# Altium schematic symbol library WJ500V-5.08-2P.SchLib: 1 symbol
Pins are listed as number, name and electrical type; pins without a type are passive.

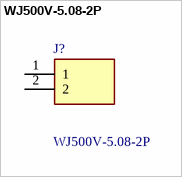
[diagram p0: symbol WJ500V-5.08-2P]

## WJ500V-5.08-2P
designator J?
P=5.08mm Screw terminal; Manufacturer_Name: Ningbo Kangnex; Geometry.Height: 14.2mm; Manufacturer_Part_Number: WJ500V-5.08-2P; Mouser Part Number: *; Mouser Price/Stock: *; Arrow Part Number: *; Arrow Price/Stock: *; Datasheet Link: https://datasheet.lcsc.com/szlcsc/1912251636_Ningbo-Kangnex-Elec-WJ500V-5-08-2P_C8465.pdf
footprint WJ500V5082P
pins: 1, 2